# Altium footprint library HAKATAYA.PcbLib: 227 footprints (part 8 of 15)
Each footprint in its own frame and in the unit in brackets; x right, y up, seen from the top. Pads: shape width x height; smd on the part's side, far side on the other; paste and mask are expansions set on the pad; w line width, h text height; cw(c..) or ccw(c..) is an arc to the next point about the centre after c.
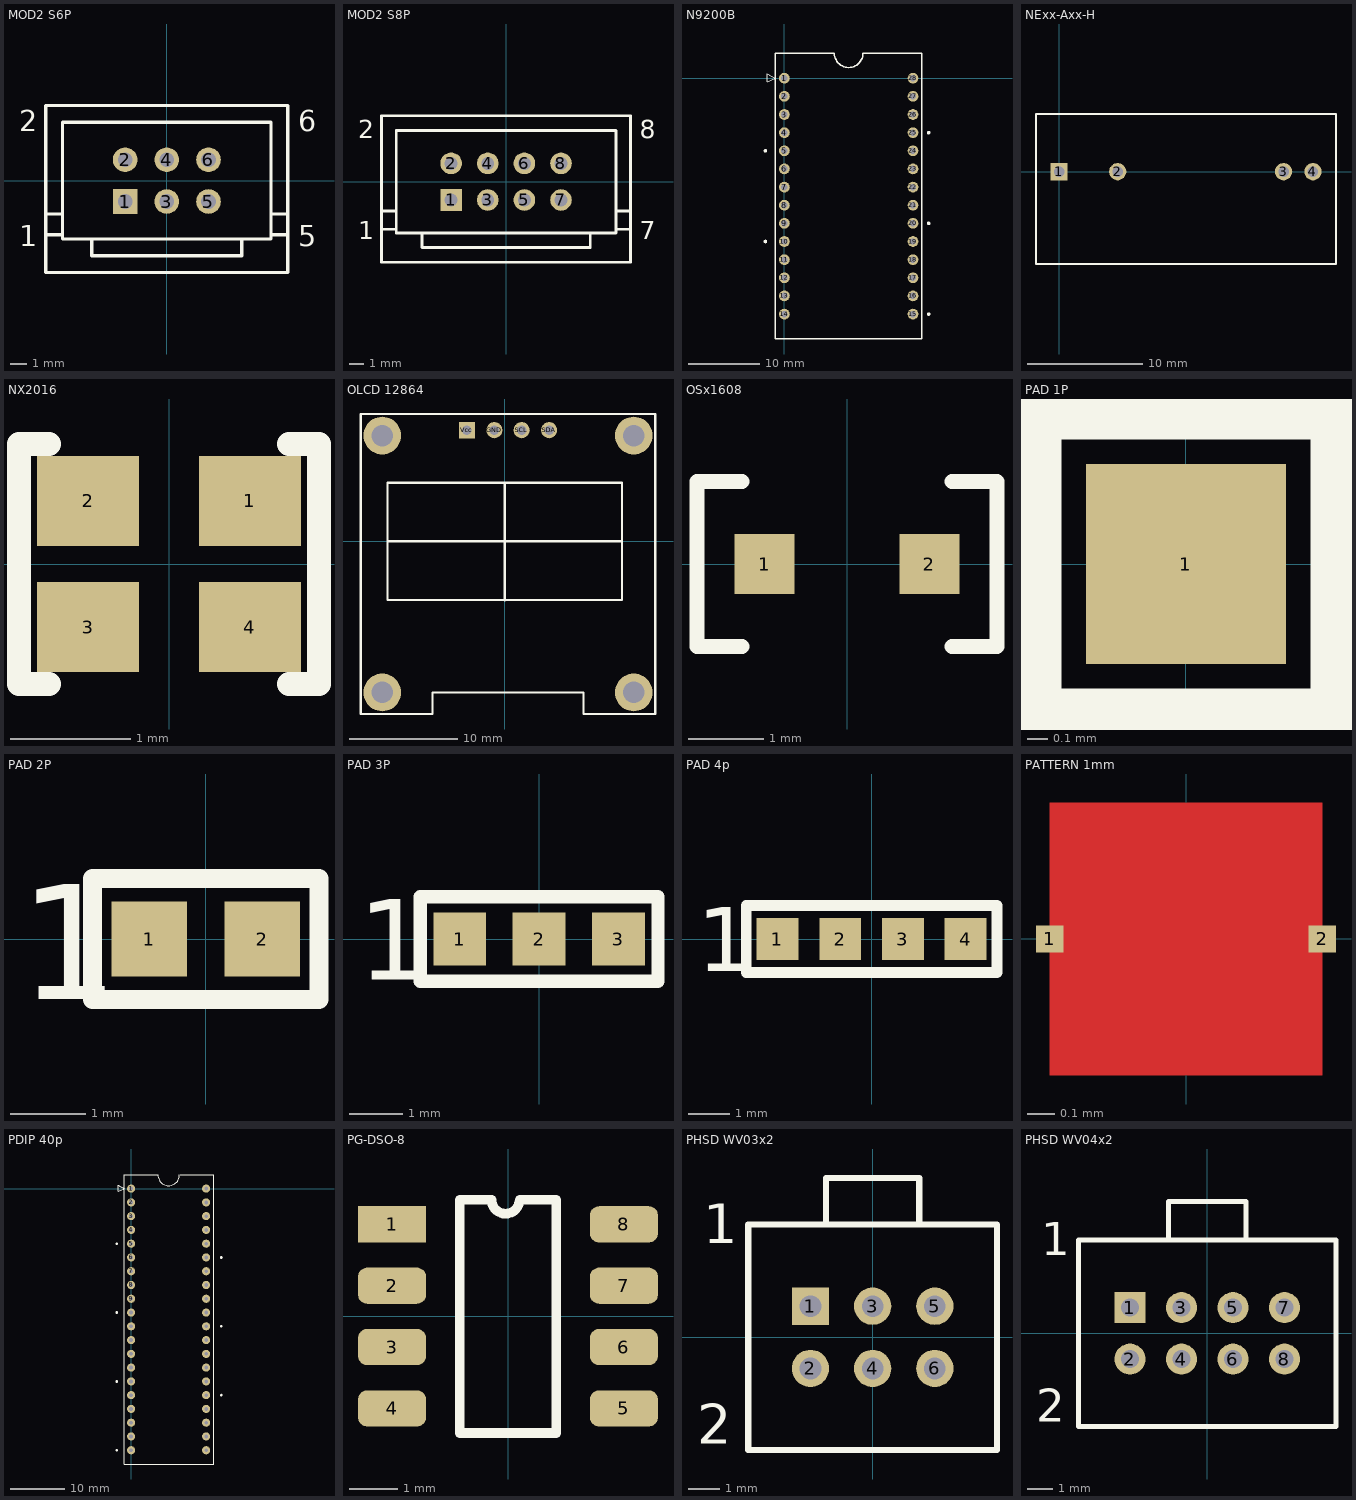
[diagram p7: the footprints below, top view; thin cyan lines are the x and y axes]

## MOD2 S6P [mm]
pads (6):
  rect 1.5x1.5 hole 0.889: 1(-2.54,-1.27)
  round 1.5 hole 0.889: 2(-2.54,1.27) 3(0,-1.27) 4(0,1.27) 5(2.54,-1.27) 6(2.54,1.27)
Top Overlay:
  lines w0.2: -7.366,-3.302 -6.35,-3.302 ; -7.366,-2.032 -6.35,-2.032 ; -4.572,-3.556 -4.572,-4.572 4.572,-4.572 4.572,-3.556 ; 6.35,-3.302 7.366,-3.302 ; 6.35,-2.032 7.366,-2.032 ; -7.366,-5.588 7.366,-5.588 7.366,4.572 -7.366,4.572 -7.366,-5.588 ; -6.35,-3.556 -6.35,3.556 6.35,3.556 6.35,-3.556 -6.35,-3.556
  text "1" at -9,-4 h1.27
  text "2" at -9,3 h1.27
  text "5" at 8,-4 h1.27
  text "6" at 8,3 h1.27

## MOD2 S8P [mm]
pads (8):
  rect 1.5x1.5 hole 0.889: 1(-3.81,-1.27)
  round 1.5 hole 0.889: 2(-3.81,1.27) 3(-1.27,-1.27) 4(-1.27,1.27) 5(1.27,-1.27) 6(1.27,1.27) 7(3.81,-1.27) 8(3.81,1.27)
Top Overlay:
  lines w0.2: -8.636,-3.302 -7.62,-3.302 ; -8.636,-2.032 -7.62,-2.032 ; -5.842,-3.556 -5.842,-4.572 5.842,-4.572 5.842,-3.556 ; 7.62,-3.302 8.636,-3.302 ; 7.62,-2.032 8.636,-2.032 ; -8.636,-5.588 8.636,-5.588 8.636,4.572 -8.636,4.572 -8.636,-5.588 ; -7.62,-3.556 -7.62,3.556 7.62,3.556 7.62,-3.556 -7.62,-3.556
  text "1" at -10.27,-4 h1.27
  text "2" at -10.27,3 h1.27
  text "7" at 9.27,-4 h1.27
  text "8" at 9.27,3 h1.27

## N9200B [mm]
pads (28):
  round 1.5 hole 0.9: 1(0,0) 2(0,-2.54) 3(0,-5.08) 4(0,-7.62) 5(0,-10.16) 6(0,-12.7) 7(0,-15.24) 8(0,-17.78) 9(0,-20.32) 10(0,-22.86) 11(0,-25.4) 12(0,-27.94) 13(0,-30.48) 14(0,-33.02) 15(18,-33.02) 16(18,-30.48) 17(18,-27.94) 18(18,-25.4) 19(18,-22.86) 20(18,-20.32) 21(18,-17.78) 22(18,-15.24) 23(18,-12.7) 24(18,-10.16) 25(18,-7.62) 26(18,-5.08) 27(18,-2.54) 28(18,0)
Top Overlay:
  circle w0.25: c-2.665,-10.16 r0.125
  circle w0.25: c-2.665,-22.86 r0.125
  circle w0.25: c20.195,-33.02 r0.125
  circle w0.25: c20.195,-20.32 r0.125
  circle w0.25: c20.195,-7.62 r0.125
  lines w0.1: -2.376,-0.512 -1.27,0 -2.375,0.597 -2.375,-0.514
  lines w0.2: -1.25,-36.51 -1.25,3.49 7,3.49 ccw(c9,3.49) 11,3.49 19.25,3.49 19.25,-36.51 -1.25,-36.51

## NExx-Axx-H [mm] "NI-BOXING AC-DC"
height 24
pads (4):
  rect 1.5x1.5 hole 0.9: 1(0,0)
  round 1.5 hole 0.9: 2(5.08,0) 3(19.46,0) 4(22,0)
Top Overlay:
  lines w0.2: -2,-8 -2,5 24,5 24,-8 -2,-8

## NX2016 [mm] "NDK 38.400MHz CRYSTA:"
height 0.45
pads (4):
  rect 0.85x0.75 smd: 1(0.675,0.525) 2(-0.675,0.525) 3(-0.675,-0.525) 4(0.675,-0.525)
Top Overlay:
  lines w0.2: -1,-1 -1.25,-1 -1.25,1 -1,1 ; 1,-1 1.25,-1 1.25,1 1,1

## OLCD 12864 [mm]
height 11
pads (8):
  round 1.5 hole 0.9: GND(-0.97,10.3) SCL(1.57,10.3) SDA(4.11,10.3)
  rect 1.5x1.5 hole 0.9: Vcc(-3.51,10.3)
  round 3.5 hole 2: ""(-11.35,-14) ""(-11.35,9.8) ""(11.95,-14) ""(11.95,9.8)
Top Overlay:
  lines w0.2: -10.872,0.002 10.872,0.002 ; 0,-5.464 0,5.4 ; -13.35,-16 -13.35,11.8 13.95,11.8 13.95,-16 7.3,-16 7.3,-14 -6.7,-14 -6.7,-16 -13.35,-16 ; -10.872,-5.43 -10.872,5.434 10.872,5.434 10.872,-5.43 -10.872,-5.43

## OSx1608 [mm] "LED OSx1608"
height 0.6
pads (2):
  rect 0.8x0.8 smd: 1(-1.1,0) 2(1.1,0)
Top Overlay:
  lines w0.2: -1.4,-1.1 -2,-1.1 -2,1.1 -1.4,1.1 ; 1.4,-1.1 2,-1.1 2,1.1 1.4,1.1

## PAD 1P [mm]
pads (1):
  rect 1x1 smd: 1(0,0)
Top Overlay:
  lines w0.254: -0.75,-0.75 -0.75,0.75 0.75,0.75 0.75,-0.75 -0.75,-0.75

## PAD 2P [mm]
pads (2):
  rect 1x1 smd: 1(-0.75,0) 2(0.75,0)
Top Overlay:
  lines w0.254: -1.5,-0.8 -1.5,0.8 1.5,0.8 1.5,-0.8 -1.5,-0.8
  text "1" at -2.475,-0.8 h1.52

## PAD 3P [mm]
pads (3):
  rect 1x1 smd: 1(-1.5,0) 2(0,0) 3(1.5,0)
Top Overlay:
  lines w0.254: -2.25,-0.8 2.25,-0.8 2.25,0.8 -2.25,0.8 -2.25,-0.8
  text "1" at -3.425,-0.775 h1.52

## PAD 4p [mm] "1 x 1 mm"
pads (4):
  rect 1x1 smd: 1(-2.25,0) 2(-0.75,0) 3(0.75,0) 4(2.25,0)
Top Overlay:
  lines w0.254: -3,-0.8 -3,0.8 3,0.8 3,-0.8 -3,-0.8
  text "1" at -4.175,-0.775 h1.52

## PATTERN 1mm [mm]
pads (2):
  rect 0.1x0.1 smd: 1(-0.5,0) 2(0.5,0)
Top Layer:
  rectangle: -0.5,-0.5 0.5,0.5

## PDIP 40p [mm] "1.524 Pitch"
pads (40):
  round 1.5 hole 0.7: 1(0,0) 2(0,-2.54) 3(0,-5.08) 4(0,-7.62) 5(0,-10.16) 6(0,-12.7) 7(0,-15.24) 8(0,-17.78) 9(0,-20.32) 10(0,-22.86) 11(0,-25.4) 12(0,-27.94) 13(0,-30.48) 14(0,-33.02) 15(0,-35.56) 16(0,-38.1) 17(0,-40.64) 18(0,-43.18) 19(0,-45.72) 20(0,-48.26) 21(13.843,-48.26) 22(13.843,-45.72) 23(13.843,-43.18) 24(13.843,-40.64) 25(13.843,-38.1) 26(13.843,-35.56) 27(13.843,-33.02) 28(13.843,-30.48) 29(13.843,-27.94) 30(13.843,-25.4) 31(13.843,-22.86) 32(13.843,-20.32) 33(13.843,-17.78) 34(13.843,-15.24) 35(13.843,-12.7) 36(13.843,-10.16) 37(13.843,-7.62) 38(13.843,-5.08) 39(13.843,-2.54) 40(13.843,0)
Top Overlay:
  circle w0.25: c16.639,-12.7 r0.125
  circle w0.25: c16.639,-25.4 r0.125
  circle w0.25: c16.639,-38.1 r0.125
  circle w0.25: c-2.665,-22.86 r0.125
  circle w0.25: c-2.665,-10.16 r0.125
  circle w0.25: c-2.665,-35.56 r0.125
  circle w0.25: c-2.665,-48.26 r0.125
  lines w0.1: -2.376,-0.512 -1.27,0 -2.375,0.597 -2.375,-0.514
  lines w0.2: 4.826,2.54 -1.25,2.54 -1.25,-50.8 15.24,-50.8 15.24,2.54 9.017,2.54 ; 4.921,2.54 ccw(c6.921,2.54) 8.922,2.54

## PG-DSO-8 [mm] "BSO220N"
height 1.75
pads (8):
  rect 1.41x0.75 smd: 1(-2.4,1.905)
  rrect50% 1.41x0.75 smd: 2(-2.4,0.635) 3(-2.4,-0.635) 4(-2.4,-1.905) 5(2.4,-1.905) 6(2.4,-0.635) 7(2.4,0.635) 8(2.4,1.905)
Top Overlay:
  lines w0.2: -0.344,2.413 -1,2.413 -1,-2.413 1,-2.413 1,2.413 0.24,2.413 cw(c-0.051,2.417) -0.343,2.417

## PHSD WV03x2 [mm] "YOLINK PHSD CONNECTOR A2006-WVxxX2 2.00mm"
height 7.6
pads (6):
  rect 1.2x1.2 hole 0.7: 1(-2,1)
  round 1.2 hole 0.7: 2(-2,-1) 3(0,1) 4(0,-1) 5(2,1) 6(2,-1)
Top Overlay:
  lines w0.2: -1.5,3.625 -1.5,5.125 1.5,5.125 1.5,3.625 ; -4,-3.625 -4,3.625 4,3.625 4,-3.625 -4,-3.625
  text "2" at -5.65,-3.425 h1.27
  text "1" at -5.45,3.025 h1.27

## PHSD WV04x2 [mm] "YOLINK PHSD CONNECTOR A2006-WVxxX2 2.00mm"
height 7.6
pads (8):
  rect 1.2x1.2 hole 0.7: 1(-3,1)
  round 1.2 hole 0.7: 2(-3,-1) 3(-1,1) 4(-1,-1) 5(1,1) 6(1,-1) 7(3,1) 8(3,-1)
Top Overlay:
  lines w0.2: -1.5,3.625 -1.5,5.125 1.5,5.125 1.5,3.625 ; -5,-3.625 5,-3.625 5,3.625 -5,3.625 -5,-3.625
  text "2" at -6.65,-3.425 h1.27
  text "1" at -6.45,3.025 h1.27